# Altium schematic symbol library Molex FFC - FPC Connectors (Through-Hole).SchLib: 219 symbols (part 6 of 7)
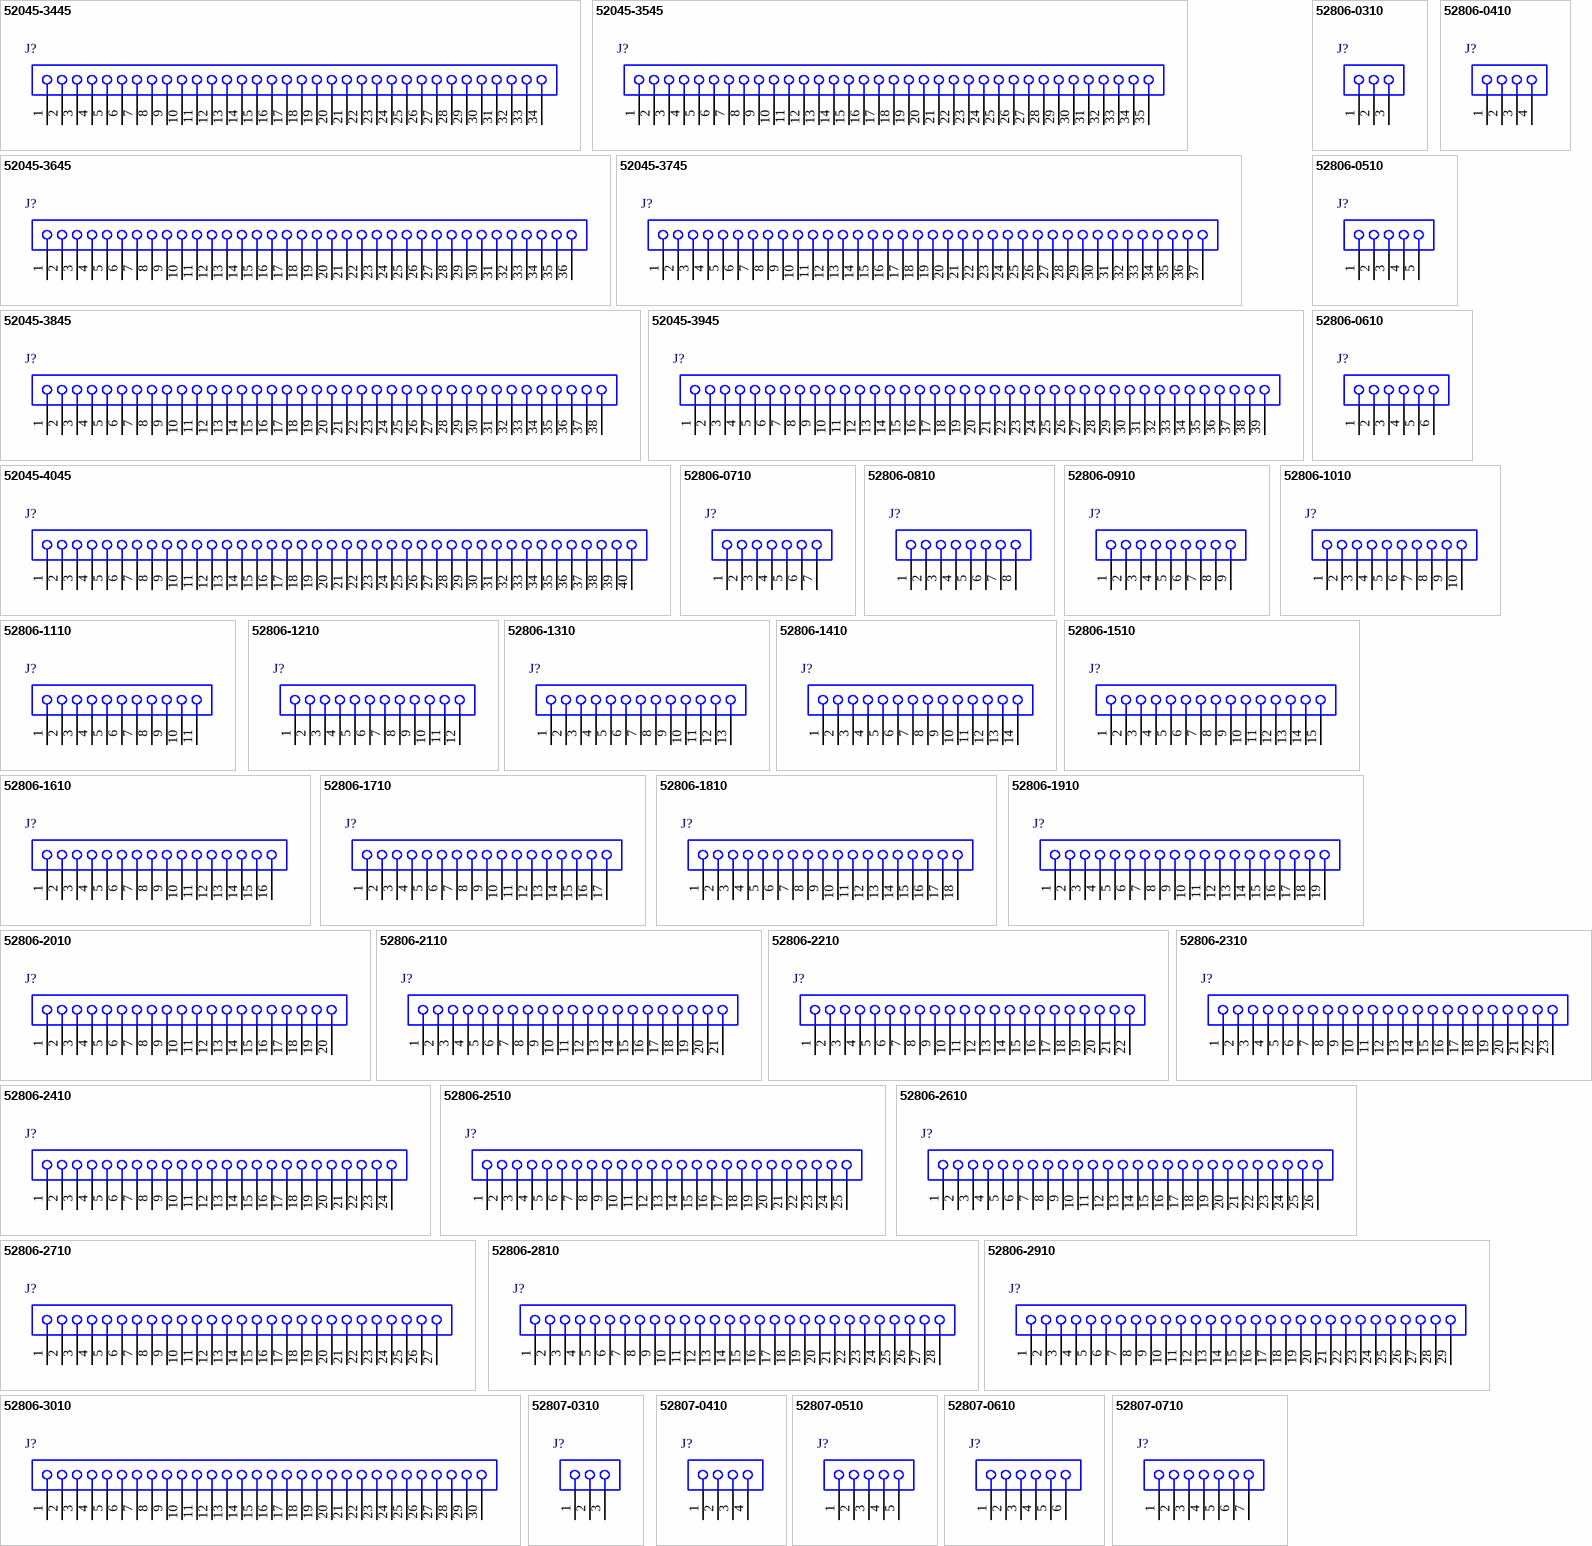
[diagram p10: symbols 52045-3445 to 52807-0710]

## 52806-2510
designator J?
1.0 mm Pitch FFC Connector, 5.4 mm Mated Height, Vertical, Non-ZIF, Through Hole, 25 Circuits, -20 to 80 degC, ELV and RoHS Compliant, Tray; Manufacturer: Molex; PartNumber: 52806-2510; Circuits (Loaded): 25; Current (Max per Contact): 0.5A; Durability (mating cycles max): 10; Mated Height: 5.40mm; Material - Metal: Phosphor Bronze; Material - Plating Mating: Tin; PCB Locator: No; PCB Retention: None; Pitch - Mating Interface: 1.00mm; Voltage (Max): 50V AC (RMS)/DC; PackageVersion: Rev. B, 08/2002; PackageReference: 52806-2510; PackageDescription: 25-Lead FFC Connector, Pitch 1.0 mm; Circuits (maximum): 25; Contact Position: N/A; Entry Angle: Vertical; Material - Plating Termination: Tin; Number of Rows: 1; Orientation: Vertical; Packing: Tray; Pitch - Termination Interface: 1.00mm; Polarized to PCB: No; RoHS: TRUE; Stackable: No; Mounting Technology: Through Hole; ComponentLink1Description: Manufacturer URL; ComponentLink1URL: http://www.molex.com/molex/index.jsp; ComponentLink2Description: Datasheet; ComponentLink2URL: http://www.molex.com/webdocs/datasheets/pdf/en-us/0528062510_FFC_FPC_CONNECTORS.pdf; ComponentLink3Description: Package Specification; ComponentLink3URL: http://www.molex.com/pdm_docs/sd/528062510_sd.pdf
footprint MOLX-52806-2510 (FFC Connector, 25-Leads, Vertical, Pitch 1.0 mm, Mated Height 5.4 mm, Through Hole)
pins: 1, 2, 3, 4, 5, 6, 7, 8, 9, 10, 11, 12, 13, 14, 15, 16, 17, 18, 19, 20, 21, 22, 23, 24, 25

## 52806-2610
designator J?
1.0 mm Pitch FFC Connector, 5.4 mm Mated Height, Vertical, Non-ZIF, Through Hole, 26 Circuits, -20 to 80 degC, ELV and RoHS Compliant, Tray; Manufacturer: Molex; PartNumber: 52806-2610; Circuits (Loaded): 26; Current (Max per Contact): 0.5A; Durability (mating cycles max): 10; Mated Height: 5.40mm; Material - Metal: Phosphor Bronze; Material - Plating Mating: Tin; PCB Locator: No; PCB Retention: None; Pitch - Mating Interface: 1.00mm; Voltage (Max): 50V AC (RMS)/DC; PackageVersion: Rev. B, 08/2002; PackageReference: 52806-2610; PackageDescription: 26-Lead FFC Connector, Pitch 1.0 mm; Circuits (maximum): 26; Contact Position: N/A; Entry Angle: Vertical; Material - Plating Termination: Tin; Number of Rows: 1; Orientation: Vertical; Packing: Tray; Pitch - Termination Interface: 1.00mm; Polarized to PCB: No; RoHS: TRUE; Stackable: No; Mounting Technology: Through Hole; ComponentLink1Description: Manufacturer URL; ComponentLink1URL: http://www.molex.com/molex/index.jsp; ComponentLink2Description: Datasheet; ComponentLink2URL: http://www.molex.com/webdocs/datasheets/pdf/en-us/0528062610_FFC_FPC_CONNECTORS.pdf; ComponentLink3Description: Package Specification; ComponentLink3URL: http://www.molex.com/pdm_docs/sd/528062610_sd.pdf
footprint MOLX-52806-2610 (FFC Connector, 26-Leads, Vertical, Pitch 1.0 mm, Mated Height 5.4 mm, Through Hole)
pins: 1, 2, 3, 4, 5, 6, 7, 8, 9, 10, 11, 12, 13, 14, 15, 16, 17, 18, 19, 20, 21, 22, 23, 24, 25, 26

## 52806-2710
designator J?
1.0 mm Pitch FFC Connector, 5.4 mm Mated Height, Vertical, Non-ZIF, Through Hole, 27 Circuits, -20 to 80 degC, ELV and RoHS Compliant, Tray; Manufacturer: Molex; PartNumber: 52806-2710; Circuits (Loaded): 27; Current (Max per Contact): 0.5A; Durability (mating cycles max): 10; Mated Height: 5.40mm; Material - Metal: Phosphor Bronze; Material - Plating Mating: Tin; PCB Locator: No; PCB Retention: None; Pitch - Mating Interface: 1.00mm; Voltage (Max): 50V AC (RMS)/DC; PackageVersion: Rev. B, 08/2002; PackageReference: 52806-2710; PackageDescription: 27-Lead FFC Connector, Pitch 1.0 mm; Circuits (maximum): 27; Contact Position: N/A; Entry Angle: Vertical; Material - Plating Termination: Tin; Number of Rows: 1; Orientation: Vertical; Packing: Tray; Pitch - Termination Interface: 1.00mm; Polarized to PCB: No; RoHS: TRUE; Stackable: No; Mounting Technology: Through Hole; ComponentLink1Description: Manufacturer URL; ComponentLink1URL: http://www.molex.com/molex/index.jsp; ComponentLink2Description: Datasheet; ComponentLink2URL: http://www.molex.com/webdocs/datasheets/pdf/en-us/0528062710_FFC_FPC_CONNECTORS.pdf; ComponentLink3Description: Package Specification; ComponentLink3URL: http://www.molex.com/pdm_docs/sd/528062710_sd.pdf
footprint MOLX-52806-2710 (FFC Connector, 27-Leads, Vertical, Pitch 1.0 mm, Mated Height 5.4 mm, Through Hole)
pins: 1, 2, 3, 4, 5, 6, 7, 8, 9, 10, 11, 12, 13, 14, 15, 16, 17, 18, 19, 20, 21, 22, 23, 24, 25, 26, 27

## 52806-2810
designator J?
1.0 mm Pitch FFC Connector, 5.4 mm Mated Height, Vertical, Non-ZIF, Through Hole, 28 Circuits, -20 to 80 degC, ELV and RoHS Compliant, Tray; Manufacturer: Molex; PartNumber: 52806-2810; Circuits (Loaded): 28; Current (Max per Contact): 0.5A; Durability (mating cycles max): 10; Mated Height: 5.40mm; Material - Metal: Phosphor Bronze; Material - Plating Mating: Tin; PCB Locator: No; PCB Retention: None; Pitch - Mating Interface: 1.00mm; Voltage (Max): 50V AC (RMS)/DC; PackageVersion: Rev. B, 08/2002; PackageReference: 52806-2810; PackageDescription: 28-Lead FFC Connector, Pitch 1.0 mm; Circuits (maximum): 28; Contact Position: N/A; Entry Angle: Vertical; Material - Plating Termination: Tin; Number of Rows: 1; Orientation: Vertical; Packing: Tray; Pitch - Termination Interface: 1.00mm; Polarized to PCB: No; RoHS: TRUE; Stackable: No; Mounting Technology: Through Hole; ComponentLink1Description: Manufacturer URL; ComponentLink1URL: http://www.molex.com/molex/index.jsp; ComponentLink2Description: Datasheet; ComponentLink2URL: http://www.molex.com/webdocs/datasheets/pdf/en-us/0528062810_FFC_FPC_CONNECTORS.pdf; ComponentLink3Description: Package Specification; ComponentLink3URL: http://www.molex.com/pdm_docs/sd/528062810_sd.pdf
footprint MOLX-52806-2810 (FFC Connector, 28-Leads, Vertical, Pitch 1.0 mm, Mated Height 5.4 mm, Through Hole)
pins: 1, 2, 3, 4, 5, 6, 7, 8, 9, 10, 11, 12, 13, 14, 15, 16, 17, 18, 19, 20, 21, 22, 23, 24, 25, 26, 27, 28

## 52806-2910
designator J?
1.0 mm Pitch FFC Connector, 5.4 mm Mated Height, Vertical, Non-ZIF, Through Hole, 29 Circuits, -20 to 80 degC, ELV and RoHS Compliant, Tray; Manufacturer: Molex; PartNumber: 52806-2910; Circuits (Loaded): 29; Current (Max per Contact): 0.5A; Durability (mating cycles max): 10; Mated Height: 5.40mm; Material - Metal: Phosphor Bronze; Material - Plating Mating: Tin; PCB Locator: No; PCB Retention: None; Pitch - Mating Interface: 1.00mm; Voltage (Max): 50V AC (RMS)/DC; PackageVersion: Rev. B, 08/2002; PackageReference: 52806-2910; PackageDescription: 29-Lead FFC Connector, Pitch 1.0 mm; Circuits (maximum): 29; Contact Position: N/A; Entry Angle: Vertical; Material - Plating Termination: Tin; Number of Rows: 1; Orientation: Vertical; Packing: Tray; Pitch - Termination Interface: 1.00mm; Polarized to PCB: No; RoHS: TRUE; Stackable: No; Mounting Technology: Through Hole; ComponentLink1Description: Manufacturer URL; ComponentLink1URL: http://www.molex.com/molex/index.jsp; ComponentLink2Description: Datasheet; ComponentLink2URL: http://www.molex.com/webdocs/datasheets/pdf/en-us/0528062910_FFC_FPC_CONNECTORS.pdf; ComponentLink3Description: Package Specification; ComponentLink3URL: http://www.molex.com/pdm_docs/sd/528062910_sd.pdf
footprint MOLX-52806-2910 (FFC Connector, 29-Leads, Vertical, Pitch 1.0 mm, Mated Height 5.4 mm, Through Hole)
pins: 1, 2, 3, 4, 5, 6, 7, 8, 9, 10, 11, 12, 13, 14, 15, 16, 17, 18, 19, 20, 21, 22, 23, 24, 25, 26, 27, 28, 29

## 52806-3010
designator J?
1.0 mm Pitch FFC Connector, 5.4 mm Mated Height, Vertical, Non-ZIF, Through Hole, 30 Circuits, -20 to 80 degC, ELV and RoHS Compliant, Tray; Manufacturer: Molex; PartNumber: 52806-3010; Circuits (Loaded): 30; Current (Max per Contact): 0.5A; Durability (mating cycles max): 10; Mated Height: 5.40mm; Material - Metal: Phosphor Bronze; Material - Plating Mating: Tin; PCB Locator: No; PCB Retention: None; Pitch - Mating Interface: 1.00mm; Voltage (Max): 50V AC (RMS)/DC; PackageVersion: Rev. B, 08/2002; PackageReference: 52806-3010; PackageDescription: 30-Lead FFC Connector, Pitch 1.0 mm; Circuits (maximum): 30; Contact Position: N/A; Entry Angle: Vertical; Material - Plating Termination: Tin; Number of Rows: 1; Orientation: Vertical; Packing: Tray; Pitch - Termination Interface: 1.00mm; Polarized to PCB: No; RoHS: TRUE; Stackable: No; Mounting Technology: Through Hole; ComponentLink1Description: Manufacturer URL; ComponentLink1URL: http://www.molex.com/molex/index.jsp; ComponentLink2Description: Datasheet; ComponentLink2URL: http://www.molex.com/webdocs/datasheets/pdf/en-us/0528063010_FFC_FPC_CONNECTORS.pdf; ComponentLink3Description: Package Specification; ComponentLink3URL: http://www.molex.com/pdm_docs/sd/528063010_sd.pdf
footprint MOLX-52806-3010 (FFC Connector, 30-Leads, Vertical, Pitch 1.0 mm, Mated Height 5.4 mm, Through Hole)
pins: 1, 2, 3, 4, 5, 6, 7, 8, 9, 10, 11, 12, 13, 14, 15, 16, 17, 18, 19, 20, 21, 22, 23, 24, 25, 26, 27, 28, 29, 30

## 52807-0310
designator J?
1.0 mm Pitch FFC Connector, 3.6 mm Mated Height, Right Angle, Non-ZIF, Through Hole, Top Contact, 3 Circuits, -20 to 80 degC, ELV and RoHS Compliant, Tray; Manufacturer: Molex; PartNumber: 52807-0310; Circuits (Loaded): 3; Current (Max per Contact): 0.2A, 0.4A, 0.5A; Entry Angle: 90degrees Angle; Mated Height: 3.60mm; Material - Metal: Phosphor Bronze; Material - Plating Mating: Tin; PCB Retention: None; Pitch - Mating Interface: 1.00mm; Polarized to PCB: Yes; Stackable: No; Voltage (Max): 50V; PackageVersion: Rev. B, 08/2002; PackageReference: 52807-0310; PackageDescription: 3-Lead FFC Connector, Pitch 1.0 mm; Contact Position: Top; Material - Plating Termination: Tin; Number of Rows: 1; Orientation: Right Angle; Packing: Tray; Pitch - Termination Interface: 1.00mm; RoHS: TRUE; Mounting Technology: Through Hole; ComponentLink1Description: Manufacturer URL; ComponentLink1URL: http://www.molex.com/molex/index.jsp; ComponentLink2Description: Datasheet; ComponentLink2URL: http://www.molex.com/webdocs/datasheets/pdf/en-us/0528070310_FFC_FPC_CONNECTORS.pdf; ComponentLink3Description: Package Specification; ComponentLink3URL: http://www.molex.com/pdm_docs/sd/528070310_sd.pdf
footprint MOLX-52807-0310 (FFC Connector, 3-Leads, Right Angle, Pitch 1.0 mm, Mated Height 3.6 mm, Through Hole)
pins: 1, 2, 3

## 52807-0410
designator J?
1.0 mm Pitch FFC Connector, 3.6 mm Mated Height, Right Angle, Non-ZIF, Through Hole, Top Contact, 4 Circuits, -20 to 80 degC, ELV and RoHS Compliant, Tray; Manufacturer: Molex; PartNumber: 52807-0410; Circuits (Loaded): 4; Current (Max per Contact): 0.2A, 0.4A, 0.5A; Entry Angle: 90degrees Angle; Mated Height: 3.60mm; Material - Metal: Phosphor Bronze; Material - Plating Mating: Tin; PCB Retention: None; Pitch - Mating Interface: 1.00mm; Polarized to PCB: Yes; Stackable: No; Voltage (Max): 50V; PackageVersion: Rev. B, 08/2002; PackageReference: 52807-0410; PackageDescription: 4-Lead FFC Connector, Pitch 1.0 mm; Contact Position: Top; Material - Plating Termination: Tin; Number of Rows: 1; Orientation: Right Angle; Packing: Tray; Pitch - Termination Interface: 1.00mm; RoHS: TRUE; Mounting Technology: Through Hole; ComponentLink1Description: Manufacturer URL; ComponentLink1URL: http://www.molex.com/molex/index.jsp; ComponentLink2Description: Datasheet; ComponentLink2URL: http://www.molex.com/webdocs/datasheets/pdf/en-us/0528070410_FFC_FPC_CONNECTORS.pdf; ComponentLink3Description: Package Specification; ComponentLink3URL: http://www.molex.com/pdm_docs/sd/528070410_sd.pdf
footprint MOLX-52807-0410 (FFC Connector, 4-Leads, Right Angle, Pitch 1.0 mm, Mated Height 3.6 mm, Through Hole)
pins: 1, 2, 3, 4

## 52807-0510
designator J?
1.0 mm Pitch FFC Connector, 3.6 mm Mated Height, Right Angle, Non-ZIF, Through Hole, Top Contact, 5 Circuits, -20 to 80 degC, ELV and RoHS Compliant, Tray; Manufacturer: Molex; PartNumber: 52807-0510; Circuits (Loaded): 5; Current (Max per Contact): 0.2A, 0.4A, 0.5A; Entry Angle: 90degrees Angle; Mated Height: 3.60mm; Material - Metal: Phosphor Bronze; Material - Plating Mating: Tin; PCB Retention: None; Pitch - Mating Interface: 1.00mm; Polarized to PCB: Yes; Stackable: No; Voltage (Max): 50V; PackageVersion: Rev. B, 08/2002; PackageReference: 52807-0510; PackageDescription: 5-Lead FFC Connector, Pitch 1.0 mm; Contact Position: Top; Material - Plating Termination: Tin; Number of Rows: 1; Orientation: Right Angle; Packing: Tray; Pitch - Termination Interface: 1.00mm; RoHS: TRUE; Mounting Technology: Through Hole; ComponentLink1Description: Manufacturer URL; ComponentLink1URL: http://www.molex.com/molex/index.jsp; ComponentLink2Description: Datasheet; ComponentLink2URL: http://www.molex.com/webdocs/datasheets/pdf/en-us/0528070510_FFC_FPC_CONNECTORS.pdf; ComponentLink3Description: Package Specification; ComponentLink3URL: http://www.molex.com/pdm_docs/sd/528070510_sd.pdf
footprint MOLX-52807-0510 (FFC Connector, 5-Leads, Right Angle, Pitch 1.0 mm, Mated Height 3.6 mm, Through Hole)
pins: 1, 2, 3, 4, 5

## 52807-0610
designator J?
1.0 mm Pitch FFC Connector, 3.6 mm Mated Height, Right Angle, Non-ZIF, Through Hole, Top Contact, 6 Circuits, -20 to 80 degC, ELV and RoHS Compliant, Tray; Manufacturer: Molex; PartNumber: 52807-0610; Circuits (Loaded): 6; Current (Max per Contact): 0.2A, 0.4A, 0.5A; Entry Angle: 90degrees Angle; Mated Height: 3.60mm; Material - Metal: Phosphor Bronze; Material - Plating Mating: Tin; PCB Retention: None; Pitch - Mating Interface: 1.00mm; Polarized to PCB: Yes; Stackable: No; Voltage (Max): 50V; PackageVersion: Rev. B, 08/2002; PackageReference: 52807-0610; PackageDescription: 6-Lead FFC Connector, Pitch 1.0 mm; Contact Position: Top; Material - Plating Termination: Tin; Number of Rows: 1; Orientation: Right Angle; Packing: Tray; Pitch - Termination Interface: 1.00mm; RoHS: TRUE; Mounting Technology: Through Hole; ComponentLink1Description: Manufacturer URL; ComponentLink1URL: http://www.molex.com/molex/index.jsp; ComponentLink2Description: Datasheet; ComponentLink2URL: http://www.molex.com/webdocs/datasheets/pdf/en-us/0528070610_FFC_FPC_CONNECTORS.pdf; ComponentLink3Description: Package Specification; ComponentLink3URL: http://www.molex.com/pdm_docs/sd/528070610_sd.pdf
footprint MOLX-52807-0610 (FFC Connector, 6-Leads, Right Angle, Pitch 1.0 mm, Mated Height 3.6 mm, Through Hole)
pins: 1, 2, 3, 4, 5, 6

## 52807-0710
designator J?
1.0 mm Pitch FFC Connector, 3.6 mm Mated Height, Right Angle, Non-ZIF, Through Hole, Top Contact, 7 Circuits, -20 to 80 degC, ELV and RoHS Compliant, Tray; Manufacturer: Molex; PartNumber: 52807-0710; Circuits (Loaded): 7; Current (Max per Contact): 0.2A, 0.4A, 0.5A; Entry Angle: 90degrees Angle; Mated Height: 3.60mm; Material - Metal: Phosphor Bronze; Material - Plating Mating: Tin; PCB Retention: None; Pitch - Mating Interface: 1.00mm; Polarized to PCB: Yes; Stackable: No; Voltage (Max): 50V; PackageVersion: Rev. B, 08/2002; PackageReference: 52807-0710; PackageDescription: 7-Lead FFC Connector, Pitch 1.0 mm; Contact Position: Top; Material - Plating Termination: Tin; Number of Rows: 1; Orientation: Right Angle; Packing: Tray; Pitch - Termination Interface: 1.00mm; RoHS: TRUE; Mounting Technology: Through Hole; ComponentLink1Description: Manufacturer URL; ComponentLink1URL: http://www.molex.com/molex/index.jsp; ComponentLink2Description: Datasheet; ComponentLink2URL: http://www.molex.com/webdocs/datasheets/pdf/en-us/0528070710_FFC_FPC_CONNECTORS.pdf; ComponentLink3Description: Package Specification; ComponentLink3URL: http://www.molex.com/pdm_docs/sd/528070710_sd.pdf
footprint MOLX-52807-0710 (FFC Connector, 7-Leads, Right Angle, Pitch 1.0 mm, Mated Height 3.6 mm, Through Hole)
pins: 1, 2, 3, 4, 5, 6, 7

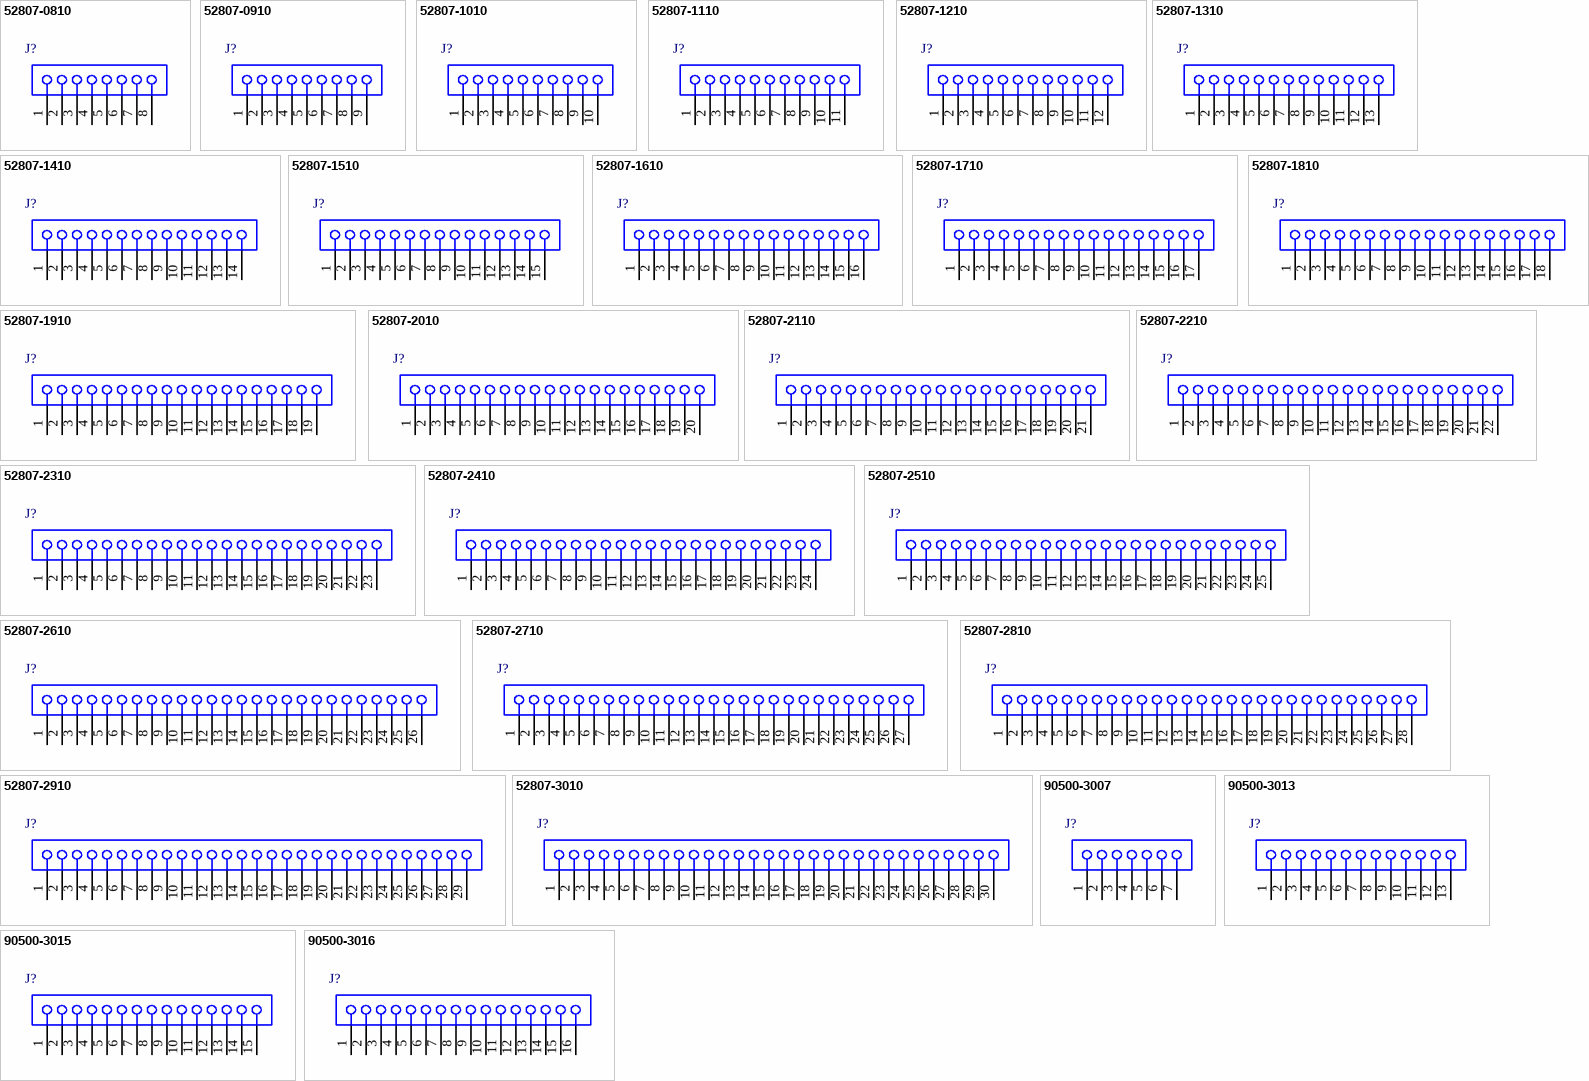
[diagram p5: symbols 52807-0810 to 90500-3016]

## 52807-0810
designator J?
1.0 mm Pitch FFC Connector, 3.6 mm Mated Height, Right Angle, Non-ZIF, Through Hole, Top Contact, 8 Circuits, -20 to 80 degC, ELV and RoHS Compliant, Tray; Manufacturer: Molex; PartNumber: 52807-0810; Circuits (Loaded): 8; Current (Max per Contact): 0.2A, 0.4A, 0.5A; Entry Angle: 90degrees Angle; Mated Height: 3.60mm; Material - Metal: Phosphor Bronze; Material - Plating Mating: Tin; PCB Retention: None; Pitch - Mating Interface: 1.00mm; Polarized to PCB: Yes; Stackable: No; Voltage (Max): 50V; PackageVersion: Rev. B, 08/2002; PackageReference: 52807-0810; PackageDescription: 8-Lead FFC Connector, Pitch 1.0 mm; Contact Position: Top; Material - Plating Termination: Tin; Number of Rows: 1; Orientation: Right Angle; Packing: Tray; Pitch - Termination Interface: 1.00mm; RoHS: TRUE; Mounting Technology: Through Hole; ComponentLink1Description: Manufacturer URL; ComponentLink1URL: http://www.molex.com/molex/index.jsp; ComponentLink2Description: Datasheet; ComponentLink2URL: http://www.molex.com/webdocs/datasheets/pdf/en-us/0528070810_FFC_FPC_CONNECTORS.pdf; ComponentLink3Description: Package Specification; ComponentLink3URL: http://www.molex.com/pdm_docs/sd/528070810_sd.pdf
footprint MOLX-52807-0810 (FFC Connector, 8-Leads, Right Angle, Pitch 1.0 mm, Mated Height 3.6 mm, Through Hole)
pins: 1, 2, 3, 4, 5, 6, 7, 8

## 52807-0910
designator J?
1.0 mm Pitch FFC Connector, 3.6 mm Mated Height, Right Angle, Non-ZIF, Through Hole, Top Contact, 9 Circuits, -20 to 80 degC, ELV and RoHS Compliant, Tray; Manufacturer: Molex; PartNumber: 52807-0910; Circuits (Loaded): 9; Current (Max per Contact): 0.2A, 0.4A, 0.5A; Entry Angle: 90degrees Angle; Mated Height: 3.60mm; Material - Metal: Phosphor Bronze; Material - Plating Mating: Tin; PCB Retention: None; Pitch - Mating Interface: 1.00mm; Polarized to PCB: Yes; Stackable: No; Voltage (Max): 50V; PackageVersion: Rev. B, 08/2002; PackageReference: 52807-0910; PackageDescription: 9-Lead FFC Connector, Pitch 1.0 mm; Contact Position: Top; Material - Plating Termination: Tin; Number of Rows: 1; Orientation: Right Angle; Packing: Tray; Pitch - Termination Interface: 1.00mm; RoHS: TRUE; Mounting Technology: Through Hole; ComponentLink1Description: Manufacturer URL; ComponentLink1URL: http://www.molex.com/molex/index.jsp; ComponentLink2Description: Datasheet; ComponentLink2URL: http://www.molex.com/webdocs/datasheets/pdf/en-us/0528070910_FFC_FPC_CONNECTORS.pdf; ComponentLink3Description: Package Specification; ComponentLink3URL: http://www.molex.com/pdm_docs/sd/528070910_sd.pdf
footprint MOLX-52807-0910 (FFC Connector, 9-Leads, Right Angle, Pitch 1.0 mm, Mated Height 3.6 mm, Through Hole)
pins: 1, 2, 3, 4, 5, 6, 7, 8, 9

## 52807-1010
designator J?
1.0 mm Pitch FFC Connector, 3.6 mm Mated Height, Right Angle, Non-ZIF, Through Hole, Top Contact, 10 Circuits, -20 to 80 degC, ELV and RoHS Compliant, Tray; Manufacturer: Molex; PartNumber: 52807-1010; Circuits (Loaded): 10; Current (Max per Contact): 0.2A, 0.4A, 0.5A; Entry Angle: 90degrees Angle; Mated Height: 3.60mm; Material - Metal: Phosphor Bronze; Material - Plating Mating: Tin; PCB Retention: None; Pitch - Mating Interface: 1.00mm; Polarized to PCB: Yes; Stackable: No; Voltage (Max): 50V; PackageVersion: Rev. B, 08/2002; PackageReference: 52807-1010; PackageDescription: 10-Lead FFC Connector, Pitch 1.0 mm; Contact Position: Top; Material - Plating Termination: Tin; Number of Rows: 1; Orientation: Right Angle; Packing: Tray; Pitch - Termination Interface: 1.00mm; RoHS: TRUE; Mounting Technology: Through Hole; ComponentLink1Description: Manufacturer URL; ComponentLink1URL: http://www.molex.com/molex/index.jsp; ComponentLink2Description: Datasheet; ComponentLink2URL: http://www.molex.com/webdocs/datasheets/pdf/en-us/0528071010_FFC_FPC_CONNECTORS.pdf; ComponentLink3Description: Package Specification; ComponentLink3URL: http://www.molex.com/pdm_docs/sd/528071010_sd.pdf
footprint MOLX-52807-1010 (FFC Connector, 10-Leads, Right Angle, Pitch 1.0 mm, Mated Height 3.6 mm, Through Hole)
pins: 1, 2, 3, 4, 5, 6, 7, 8, 9, 10

## 52807-1110
designator J?
1.0 mm Pitch FFC Connector, 3.6 mm Mated Height, Right Angle, Non-ZIF, Through Hole, Top Contact, 11 Circuits, -20 to 80 degC, ELV and RoHS Compliant, Tray; Manufacturer: Molex; PartNumber: 52807-1110; Circuits (Loaded): 11; Current (Max per Contact): 0.2A, 0.4A, 0.5A; Entry Angle: 90degrees Angle; Mated Height: 3.60mm; Material - Metal: Phosphor Bronze; Material - Plating Mating: Tin; PCB Retention: None; Pitch - Mating Interface: 1.00mm; Polarized to PCB: Yes; Stackable: No; Voltage (Max): 50V; PackageVersion: Rev. B, 08/2002; PackageReference: 52807-1110; PackageDescription: 11-Lead FFC Connector, Pitch 1.0 mm; Contact Position: Top; Material - Plating Termination: Tin; Number of Rows: 1; Orientation: Right Angle; Packing: Tray; Pitch - Termination Interface: 1.00mm; RoHS: TRUE; Mounting Technology: Through Hole; ComponentLink1Description: Manufacturer URL; ComponentLink1URL: http://www.molex.com/molex/index.jsp; ComponentLink2Description: Datasheet; ComponentLink2URL: http://www.molex.com/webdocs/datasheets/pdf/en-us/0528071110_FFC_FPC_CONNECTORS.pdf; ComponentLink3Description: Package Specification; ComponentLink3URL: http://www.molex.com/pdm_docs/sd/528071110_sd.pdf
footprint MOLX-52807-1110 (FFC Connector, 11-Leads, Right Angle, Pitch 1.0 mm, Mated Height 3.6 mm, Through Hole)
pins: 1, 2, 3, 4, 5, 6, 7, 8, 9, 10, 11

## 52807-1210
designator J?
1.0 mm Pitch FFC Connector, 3.6 mm Mated Height, Right Angle, Non-ZIF, Through Hole, Top Contact, 12 Circuits, -20 to 80 degC, ELV and RoHS Compliant, Tray; Manufacturer: Molex; PartNumber: 52807-1210; Circuits (Loaded): 12; Current (Max per Contact): 0.2A, 0.4A, 0.5A; Entry Angle: 90degrees Angle; Mated Height: 3.60mm; Material - Metal: Phosphor Bronze; Material - Plating Mating: Tin; PCB Retention: None; Pitch - Mating Interface: 1.00mm; Polarized to PCB: Yes; Stackable: No; Voltage (Max): 50V; PackageVersion: Rev. B, 08/2002; PackageReference: 52807-1210; PackageDescription: 12-Lead FFC Connector, Pitch 1.0 mm; Contact Position: Top; Material - Plating Termination: Tin; Number of Rows: 1; Orientation: Right Angle; Packing: Tray; Pitch - Termination Interface: 1.00mm; RoHS: TRUE; Mounting Technology: Through Hole; ComponentLink1Description: Manufacturer URL; ComponentLink1URL: http://www.molex.com/molex/index.jsp; ComponentLink2Description: Datasheet; ComponentLink2URL: http://www.molex.com/webdocs/datasheets/pdf/en-us/0528071210_FFC_FPC_CONNECTORS.pdf; ComponentLink3Description: Package Specification; ComponentLink3URL: http://www.molex.com/pdm_docs/sd/528071210_sd.pdf
footprint MOLX-52807-1210 (FFC Connector, 12-Leads, Right Angle, Pitch 1.0 mm, Mated Height 3.6 mm, Through Hole)
pins: 1, 2, 3, 4, 5, 6, 7, 8, 9, 10, 11, 12

## 52807-1310
designator J?
1.0 mm Pitch FFC Connector, 3.6 mm Mated Height, Right Angle, Non-ZIF, Through Hole, Top Contact, 13 Circuits, -20 to 80 degC, ELV and RoHS Compliant, Tray; Manufacturer: Molex; PartNumber: 52807-1310; Circuits (Loaded): 13; Current (Max per Contact): 0.2A, 0.4A, 0.5A; Entry Angle: 90degrees Angle; Mated Height: 3.60mm; Material - Metal: Phosphor Bronze; Material - Plating Mating: Tin; PCB Retention: None; Pitch - Mating Interface: 1.00mm; Polarized to PCB: Yes; Stackable: No; Voltage (Max): 50V; PackageVersion: Rev. B, 08/2002; PackageReference: 52807-1310; PackageDescription: 13-Lead FFC Connector, Pitch 1.0 mm; Contact Position: Top; Material - Plating Termination: Tin; Number of Rows: 1; Orientation: Right Angle; Packing: Tray; Pitch - Termination Interface: 1.00mm; RoHS: TRUE; Mounting Technology: Through Hole; ComponentLink1Description: Manufacturer URL; ComponentLink1URL: http://www.molex.com/molex/index.jsp; ComponentLink2Description: Datasheet; ComponentLink2URL: http://www.molex.com/webdocs/datasheets/pdf/en-us/0528071310_FFC_FPC_CONNECTORS.pdf; ComponentLink3Description: Package Specification; ComponentLink3URL: http://www.molex.com/pdm_docs/sd/528071310_sd.pdf
footprint MOLX-52807-1310 (FFC Connector, 13-Leads, Right Angle, Pitch 1.0 mm, Mated Height 3.6 mm, Through Hole)
pins: 1, 2, 3, 4, 5, 6, 7, 8, 9, 10, 11, 12, 13

## 52807-1410
designator J?
1.0 mm Pitch FFC Connector, 3.6 mm Mated Height, Right Angle, Non-ZIF, Through Hole, Top Contact, 14 Circuits, -20 to 80 degC, ELV and RoHS Compliant, Tray; Manufacturer: Molex; PartNumber: 52807-1410; Circuits (Loaded): 14; Current (Max per Contact): 0.2A, 0.4A, 0.5A; Entry Angle: 90degrees Angle; Mated Height: 3.60mm; Material - Metal: Phosphor Bronze; Material - Plating Mating: Tin; PCB Retention: None; Pitch - Mating Interface: 1.00mm; Polarized to PCB: Yes; Stackable: No; Voltage (Max): 50V; PackageVersion: Rev. B, 08/2002; PackageReference: 52807-1410; PackageDescription: 14-Lead FFC Connector, Pitch 1.0 mm; Contact Position: Top; Material - Plating Termination: Tin; Number of Rows: 1; Orientation: Right Angle; Packing: Tray; Pitch - Termination Interface: 1.00mm; RoHS: TRUE; Mounting Technology: Through Hole; ComponentLink1Description: Manufacturer URL; ComponentLink1URL: http://www.molex.com/molex/index.jsp; ComponentLink2Description: Datasheet; ComponentLink2URL: http://www.molex.com/webdocs/datasheets/pdf/en-us/0528071410_FFC_FPC_CONNECTORS.pdf; ComponentLink3Description: Package Specification; ComponentLink3URL: http://www.molex.com/pdm_docs/sd/528071410_sd.pdf
footprint MOLX-52807-1410 (FFC Connector, 14-Leads, Right Angle, Pitch 1.0 mm, Mated Height 3.6 mm, Through Hole)
pins: 1, 2, 3, 4, 5, 6, 7, 8, 9, 10, 11, 12, 13, 14

## 52807-1510
designator J?
1.0 mm Pitch FFC Connector, 3.6 mm Mated Height, Right Angle, Non-ZIF, Through Hole, Top Contact, 15 Circuits, -20 to 80 degC, ELV and RoHS Compliant, Tray; Manufacturer: Molex; PartNumber: 52807-1510; Circuits (Loaded): 15; Current (Max per Contact): 0.2A, 0.4A, 0.5A; Entry Angle: 90degrees Angle; Mated Height: 3.60mm; Material - Metal: Phosphor Bronze; Material - Plating Mating: Tin; PCB Retention: None; Pitch - Mating Interface: 1.00mm; Polarized to PCB: Yes; Stackable: No; Voltage (Max): 50V; PackageVersion: Rev. B, 08/2002; PackageReference: 52807-1510; PackageDescription: 15-Lead FFC Connector, Pitch 1.0 mm; Contact Position: Top; Material - Plating Termination: Tin; Number of Rows: 1; Orientation: Right Angle; Packing: Tray; Pitch - Termination Interface: 1.00mm; RoHS: TRUE; Mounting Technology: Through Hole; ComponentLink1Description: Manufacturer URL; ComponentLink1URL: http://www.molex.com/molex/index.jsp; ComponentLink2Description: Datasheet; ComponentLink2URL: http://www.molex.com/webdocs/datasheets/pdf/en-us/0528071510_FFC_FPC_CONNECTORS.pdf; ComponentLink3Description: Package Specification; ComponentLink3URL: http://www.molex.com/pdm_docs/sd/528071510_sd.pdf
footprint MOLX-52807-1510 (FFC Connector, 15-Leads, Right Angle, Pitch 1.0 mm, Mated Height 3.6 mm, Through Hole)
pins: 1, 2, 3, 4, 5, 6, 7, 8, 9, 10, 11, 12, 13, 14, 15

## 52807-1610
designator J?
1.0 mm Pitch FFC Connector, 3.6 mm Mated Height, Right Angle, Non-ZIF, Through Hole, Top Contact, 16 Circuits, -20 to 80 degC, ELV and RoHS Compliant, Tray; Manufacturer: Molex; PartNumber: 52807-1610; Circuits (Loaded): 16; Current (Max per Contact): 0.2A, 0.4A, 0.5A; Entry Angle: 90degrees Angle; Mated Height: 3.60mm; Material - Metal: Phosphor Bronze; Material - Plating Mating: Tin; PCB Retention: None; Pitch - Mating Interface: 1.00mm; Polarized to PCB: Yes; Stackable: No; Voltage (Max): 50V; PackageVersion: Rev. B, 08/2002; PackageReference: 52807-1610; PackageDescription: 16-Lead FFC Connector, Pitch 1.0 mm; Contact Position: Top; Material - Plating Termination: Tin; Number of Rows: 1; Orientation: Right Angle; Packing: Tray; Pitch - Termination Interface: 1.00mm; RoHS: TRUE; Mounting Technology: Through Hole; ComponentLink1Description: Manufacturer URL; ComponentLink1URL: http://www.molex.com/molex/index.jsp; ComponentLink2Description: Datasheet; ComponentLink2URL: http://www.molex.com/webdocs/datasheets/pdf/en-us/0528071610_FFC_FPC_CONNECTORS.pdf; ComponentLink3Description: Package Specification; ComponentLink3URL: http://www.molex.com/pdm_docs/sd/528071610_sd.pdf
footprint MOLX-52807-1610 (FFC Connector, 16-Leads, Right Angle, Pitch 1.0 mm, Mated Height 3.6 mm, Through Hole)
pins: 1, 2, 3, 4, 5, 6, 7, 8, 9, 10, 11, 12, 13, 14, 15, 16

## 52807-1710
designator J?
1.0 mm Pitch FFC Connector, 3.6 mm Mated Height, Right Angle, Non-ZIF, Through Hole, Top Contact, 17 Circuits, -20 to 80 degC, ELV and RoHS Compliant, Tray; Manufacturer: Molex; PartNumber: 52807-1710; Circuits (Loaded): 17; Current (Max per Contact): 0.2A, 0.4A, 0.5A; Entry Angle: 90degrees Angle; Mated Height: 3.60mm; Material - Metal: Phosphor Bronze; Material - Plating Mating: Tin; PCB Retention: None; Pitch - Mating Interface: 1.00mm; Polarized to PCB: Yes; Stackable: No; Voltage (Max): 50V; PackageVersion: Rev. B, 08/2002; PackageReference: 52807-1710; PackageDescription: 17-Lead FFC Connector, Pitch 1.0 mm; Contact Position: Top; Material - Plating Termination: Tin; Number of Rows: 1; Orientation: Right Angle; Packing: Tray; Pitch - Termination Interface: 1.00mm; RoHS: TRUE; Mounting Technology: Through Hole; ComponentLink1Description: Manufacturer URL; ComponentLink1URL: http://www.molex.com/molex/index.jsp; ComponentLink2Description: Datasheet; ComponentLink2URL: http://www.molex.com/webdocs/datasheets/pdf/en-us/0528071710_FFC_FPC_CONNECTORS.pdf; ComponentLink3Description: Package Specification; ComponentLink3URL: http://www.molex.com/pdm_docs/sd/528071710_sd.pdf
footprint MOLX-52807-1710 (FFC Connector, 17-Leads, Right Angle, Pitch 1.0 mm, Mated Height 3.6 mm, Through Hole)
pins: 1, 2, 3, 4, 5, 6, 7, 8, 9, 10, 11, 12, 13, 14, 15, 16, 17

## 52807-1810
designator J?
1.0 mm Pitch FFC Connector, 3.6 mm Mated Height, Right Angle, Non-ZIF, Through Hole, Top Contact, 18 Circuits, -20 to 80 degC, ELV and RoHS Compliant, Tray; Manufacturer: Molex; PartNumber: 52807-1810; Circuits (Loaded): 18; Current (Max per Contact): 0.2A, 0.4A, 0.5A; Entry Angle: 90degrees Angle; Mated Height: 3.60mm; Material - Metal: Phosphor Bronze; Material - Plating Mating: Tin; PCB Retention: None; Pitch - Mating Interface: 1.00mm; Polarized to PCB: Yes; Stackable: No; Voltage (Max): 50V; PackageVersion: Rev. B, 08/2002; PackageReference: 52807-1810; PackageDescription: 18-Lead FFC Connector, Pitch 1.0 mm; Contact Position: Top; Material - Plating Termination: Tin; Number of Rows: 1; Orientation: Right Angle; Packing: Tray; Pitch - Termination Interface: 1.00mm; RoHS: TRUE; Mounting Technology: Through Hole; ComponentLink1Description: Manufacturer URL; ComponentLink1URL: http://www.molex.com/molex/index.jsp; ComponentLink2Description: Datasheet; ComponentLink2URL: http://www.molex.com/webdocs/datasheets/pdf/en-us/0528071810_FFC_FPC_CONNECTORS.pdf; ComponentLink3Description: Package Specification; ComponentLink3URL: http://www.molex.com/pdm_docs/sd/528071810_sd.pdf
footprint MOLX-52807-1810 (FFC Connector, 18-Leads, Right Angle, Pitch 1.0 mm, Mated Height 3.6 mm, Through Hole)
pins: 1, 2, 3, 4, 5, 6, 7, 8, 9, 10, 11, 12, 13, 14, 15, 16, 17, 18

## 52807-1910
designator J?
1.0 mm Pitch FFC Connector, 3.6 mm Mated Height, Right Angle, Non-ZIF, Through Hole, Top Contact, 19 Circuits, -20 to 80 degC, ELV and RoHS Compliant, Tray; Manufacturer: Molex; PartNumber: 52807-1910; Circuits (Loaded): 19; Current (Max per Contact): 0.2A, 0.4A, 0.5A; Entry Angle: 90degrees Angle; Mated Height: 3.60mm; Material - Metal: Phosphor Bronze; Material - Plating Mating: Tin; PCB Retention: None; Pitch - Mating Interface: 1.00mm; Polarized to PCB: Yes; Stackable: No; Voltage (Max): 50V; PackageVersion: Rev. B, 08/2002; PackageReference: 52807-1910; PackageDescription: 19-Lead FFC Connector, Pitch 1.0 mm; Contact Position: Top; Material - Plating Termination: Tin; Number of Rows: 1; Orientation: Right Angle; Packing: Tray; Pitch - Termination Interface: 1.00mm; RoHS: TRUE; Mounting Technology: Through Hole; ComponentLink1Description: Manufacturer URL; ComponentLink1URL: http://www.molex.com/molex/index.jsp; ComponentLink2Description: Datasheet; ComponentLink2URL: http://www.molex.com/webdocs/datasheets/pdf/en-us/0528071910_FFC_FPC_CONNECTORS.pdf; ComponentLink3Description: Package Specification; ComponentLink3URL: http://www.molex.com/pdm_docs/sd/528071910_sd.pdf
footprint MOLX-52807-1910 (FFC Connector, 19-Leads, Right Angle, Pitch 1.0 mm, Mated Height 3.6 mm, Through Hole)
pins: 1, 2, 3, 4, 5, 6, 7, 8, 9, 10, 11, 12, 13, 14, 15, 16, 17, 18, 19

## 52807-2010
designator J?
1.0 mm Pitch FFC Connector, 3.6 mm Mated Height, Right Angle, Non-ZIF, Through Hole, Top Contact, 20 Circuits, -20 to 80 degC, ELV and RoHS Compliant, Tray; Manufacturer: Molex; PartNumber: 52807-2010; Circuits (Loaded): 20; Current (Max per Contact): 0.2A, 0.4A, 0.5A; Entry Angle: 90degrees Angle; Mated Height: 3.60mm; Material - Metal: Phosphor Bronze; Material - Plating Mating: Tin; PCB Retention: None; Pitch - Mating Interface: 1.00mm; Polarized to PCB: Yes; Stackable: No; Voltage (Max): 50V; PackageVersion: Rev. B, 08/2002; PackageReference: 52807-2010; PackageDescription: 20-Lead FFC Connector, Pitch 1.0 mm; Contact Position: Top; Material - Plating Termination: Tin; Number of Rows: 1; Orientation: Right Angle; Packing: Tray; Pitch - Termination Interface: 1.00mm; RoHS: TRUE; Mounting Technology: Through Hole; ComponentLink1Description: Manufacturer URL; ComponentLink1URL: http://www.molex.com/molex/index.jsp; ComponentLink2Description: Datasheet; ComponentLink2URL: http://www.molex.com/webdocs/datasheets/pdf/en-us/0528072010_FFC_FPC_CONNECTORS.pdf; ComponentLink3Description: Package Specification; ComponentLink3URL: http://www.molex.com/pdm_docs/sd/528072010_sd.pdf
footprint MOLX-52807-2010 (FFC Connector, 20-Leads, Right Angle, Pitch 1.0 mm, Mated Height 3.6 mm, Through Hole)
pins: 1, 2, 3, 4, 5, 6, 7, 8, 9, 10, 11, 12, 13, 14, 15, 16, 17, 18, 19, 20

## 52807-2110
designator J?
1.0 mm Pitch FFC Connector, 3.6 mm Mated Height, Right Angle, Non-ZIF, Through Hole, Top Contact, 21 Circuits, -20 to 80 degC, ELV and RoHS Compliant, Tray; Manufacturer: Molex; PartNumber: 52807-2110; Circuits (Loaded): 21; Current (Max per Contact): 0.2A, 0.4A, 0.5A; Entry Angle: 90degrees Angle; Mated Height: 3.60mm; Material - Metal: Phosphor Bronze; Material - Plating Mating: Tin; PCB Retention: None; Pitch - Mating Interface: 1.00mm; Polarized to PCB: Yes; Stackable: No; Voltage (Max): 50V; PackageVersion: Rev. B, 08/2002; PackageReference: 52807-2110; PackageDescription: 21-Lead FFC Connector, Pitch 1.0 mm; Contact Position: Top; Material - Plating Termination: Tin; Number of Rows: 1; Orientation: Right Angle; Packing: Tray; Pitch - Termination Interface: 1.00mm; RoHS: TRUE; Mounting Technology: Through Hole; ComponentLink1Description: Manufacturer URL; ComponentLink1URL: http://www.molex.com/molex/index.jsp; ComponentLink2Description: Datasheet; ComponentLink2URL: http://www.molex.com/webdocs/datasheets/pdf/en-us/0528072110_FFC_FPC_CONNECTORS.pdf; ComponentLink3Description: Package Specification; ComponentLink3URL: http://www.molex.com/pdm_docs/sd/528072110_sd.pdf
footprint MOLX-52807-2110 (FFC Connector, 21-Leads, Right Angle, Pitch 1.0 mm, Mated Height 3.6 mm, Through Hole)
pins: 1, 2, 3, 4, 5, 6, 7, 8, 9, 10, 11, 12, 13, 14, 15, 16, 17, 18, 19, 20, 21

## 52807-2210
designator J?
1.0 mm Pitch FFC Connector, 3.6 mm Mated Height, Right Angle, Non-ZIF, Through Hole, Top Contact, 22 Circuits, -20 to 80 degC, ELV and RoHS Compliant, Tray; Manufacturer: Molex; PartNumber: 52807-2210; Circuits (Loaded): 22; Current (Max per Contact): 0.2A, 0.4A, 0.5A; Entry Angle: 90degrees Angle; Mated Height: 3.60mm; Material - Metal: Phosphor Bronze; Material - Plating Mating: Tin; PCB Retention: None; Pitch - Mating Interface: 1.00mm; Polarized to PCB: Yes; Stackable: No; Voltage (Max): 50V; PackageVersion: Rev. B, 08/2002; PackageReference: 52807-2210; PackageDescription: 22-Lead FFC Connector, Pitch 1.0 mm; Contact Position: Top; Material - Plating Termination: Tin; Number of Rows: 1; Orientation: Right Angle; Packing: Tray; Pitch - Termination Interface: 1.00mm; RoHS: TRUE; Mounting Technology: Through Hole; ComponentLink1Description: Manufacturer URL; ComponentLink1URL: http://www.molex.com/molex/index.jsp; ComponentLink2Description: Datasheet; ComponentLink2URL: http://www.molex.com/webdocs/datasheets/pdf/en-us/0528072210_FFC_FPC_CONNECTORS.pdf; ComponentLink3Description: Package Specification; ComponentLink3URL: http://www.molex.com/pdm_docs/sd/528072210_sd.pdf
footprint MOLX-52807-2210 (FFC Connector, 22-Leads, Right Angle, Pitch 1.0 mm, Mated Height 3.6 mm, Through Hole)
pins: 1, 2, 3, 4, 5, 6, 7, 8, 9, 10, 11, 12, 13, 14, 15, 16, 17, 18, 19, 20, 21, 22

## 52807-2310
designator J?
1.0 mm Pitch FFC Connector, 3.6 mm Mated Height, Right Angle, Non-ZIF, Through Hole, Top Contact, 23 Circuits, -20 to 80 degC, ELV and RoHS Compliant, Tray; Manufacturer: Molex; PartNumber: 52807-2310; Circuits (Loaded): 23; Current (Max per Contact): 0.2A, 0.4A, 0.5A; Entry Angle: 90degrees Angle; Mated Height: 3.60mm; Material - Metal: Phosphor Bronze; Material - Plating Mating: Tin; PCB Retention: None; Pitch - Mating Interface: 1.00mm; Polarized to PCB: Yes; Stackable: No; Voltage (Max): 50V; PackageVersion: Rev. B, 08/2002; PackageReference: 52807-2310; PackageDescription: 23-Lead FFC Connector, Pitch 1.0 mm; Contact Position: Top; Material - Plating Termination: Tin; Number of Rows: 1; Orientation: Right Angle; Packing: Tray; Pitch - Termination Interface: 1.00mm; RoHS: TRUE; Mounting Technology: Through Hole; ComponentLink1Description: Manufacturer URL; ComponentLink1URL: http://www.molex.com/molex/index.jsp; ComponentLink2Description: Datasheet; ComponentLink2URL: http://www.molex.com/webdocs/datasheets/pdf/en-us/0528072310_FFC_FPC_CONNECTORS.pdf; ComponentLink3Description: Package Specification; ComponentLink3URL: http://www.molex.com/pdm_docs/sd/528072310_sd.pdf
footprint MOLX-52807-2310 (FFC Connector, 23-Leads, Right Angle, Pitch 1.0 mm, Mated Height 3.6 mm, Through Hole)
pins: 1, 2, 3, 4, 5, 6, 7, 8, 9, 10, 11, 12, 13, 14, 15, 16, 17, 18, 19, 20, 21, 22, 23

## 52807-2410
designator J?
1.0 mm Pitch FFC Connector, 3.6 mm Mated Height, Right Angle, Non-ZIF, Through Hole, Top Contact, 24 Circuits, -20 to 80 degC, ELV and RoHS Compliant, Tray; Manufacturer: Molex; PartNumber: 52807-2410; Circuits (Loaded): 24; Current (Max per Contact): 0.2A, 0.4A, 0.5A; Entry Angle: 90degrees Angle; Mated Height: 3.60mm; Material - Metal: Phosphor Bronze; Material - Plating Mating: Tin; PCB Retention: None; Pitch - Mating Interface: 1.00mm; Polarized to PCB: Yes; Stackable: No; Voltage (Max): 50V; PackageVersion: Rev. B, 08/2002; PackageReference: 52807-2410; PackageDescription: 24-Lead FFC Connector, Pitch 1.0 mm; Contact Position: Top; Material - Plating Termination: Tin; Number of Rows: 1; Orientation: Right Angle; Packing: Tray; Pitch - Termination Interface: 1.00mm; RoHS: TRUE; Mounting Technology: Through Hole; ComponentLink1Description: Manufacturer URL; ComponentLink1URL: http://www.molex.com/molex/index.jsp; ComponentLink2Description: Datasheet; ComponentLink2URL: http://www.molex.com/webdocs/datasheets/pdf/en-us/0528072410_FFC_FPC_CONNECTORS.pdf; ComponentLink3Description: Package Specification; ComponentLink3URL: http://www.molex.com/pdm_docs/sd/528072410_sd.pdf
footprint MOLX-52807-2410 (FFC Connector, 24-Leads, Right Angle, Pitch 1.0 mm, Mated Height 3.6 mm, Through Hole)
pins: 1, 2, 3, 4, 5, 6, 7, 8, 9, 10, 11, 12, 13, 14, 15, 16, 17, 18, 19, 20, 21, 22, 23, 24

## 52807-2510
designator J?
1.0 mm Pitch FFC Connector, 3.6 mm Mated Height, Right Angle, Non-ZIF, Through Hole, Top Contact, 25 Circuits, -20 to 80 degC, ELV and RoHS Compliant, Tray; Manufacturer: Molex; PartNumber: 52807-2510; Circuits (Loaded): 25; Current (Max per Contact): 0.2A, 0.4A, 0.5A; Entry Angle: 90degrees Angle; Mated Height: 3.60mm; Material - Metal: Phosphor Bronze; Material - Plating Mating: Tin; PCB Retention: None; Pitch - Mating Interface: 1.00mm; Polarized to PCB: Yes; Stackable: No; Voltage (Max): 50V; PackageVersion: Rev. B, 08/2002; PackageReference: 52807-2510; PackageDescription: 25-Lead FFC Connector, Pitch 1.0 mm; Contact Position: Top; Material - Plating Termination: Tin; Number of Rows: 1; Orientation: Right Angle; Packing: Tray; Pitch - Termination Interface: 1.00mm; RoHS: TRUE; Mounting Technology: Through Hole; ComponentLink1Description: Manufacturer URL; ComponentLink1URL: http://www.molex.com/molex/index.jsp; ComponentLink2Description: Datasheet; ComponentLink2URL: http://www.molex.com/webdocs/datasheets/pdf/en-us/0528072510_FFC_FPC_CONNECTORS.pdf; ComponentLink3Description: Package Specification; ComponentLink3URL: http://www.molex.com/pdm_docs/sd/528072510_sd.pdf
footprint MOLX-52807-2510 (FFC Connector, 25-Leads, Right Angle, Pitch 1.0 mm, Mated Height 3.6 mm, Through Hole)
pins: 1, 2, 3, 4, 5, 6, 7, 8, 9, 10, 11, 12, 13, 14, 15, 16, 17, 18, 19, 20, 21, 22, 23, 24, 25

## 52807-2610
designator J?
1.0 mm Pitch FFC Connector, 3.6 mm Mated Height, Right Angle, Non-ZIF, Through Hole, Top Contact, 26 Circuits, -20 to 80 degC, ELV and RoHS Compliant, Tray; Manufacturer: Molex; PartNumber: 52807-2610; Circuits (Loaded): 26; Current (Max per Contact): 0.2A, 0.4A, 0.5A; Entry Angle: 90degrees Angle; Mated Height: 3.60mm; Material - Metal: Phosphor Bronze; Material - Plating Mating: Tin; PCB Retention: None; Pitch - Mating Interface: 1.00mm; Polarized to PCB: Yes; Stackable: No; Voltage (Max): 50V; PackageVersion: Rev. B, 08/2002; PackageReference: 52807-2610; PackageDescription: 26-Lead FFC Connector, Pitch 1.0 mm; Contact Position: Top; Material - Plating Termination: Tin; Number of Rows: 1; Orientation: Right Angle; Packing: Tray; Pitch - Termination Interface: 1.00mm; RoHS: TRUE; Mounting Technology: Through Hole; ComponentLink1Description: Manufacturer URL; ComponentLink1URL: http://www.molex.com/molex/index.jsp; ComponentLink2Description: Datasheet; ComponentLink2URL: http://www.molex.com/webdocs/datasheets/pdf/en-us/0528072610_FFC_FPC_CONNECTORS.pdf; ComponentLink3Description: Package Specification; ComponentLink3URL: http://www.molex.com/pdm_docs/sd/528072610_sd.pdf
footprint MOLX-52807-2610 (FFC Connector, 26-Leads, Right Angle, Pitch 1.0 mm, Mated Height 3.6 mm, Through Hole)
pins: 1, 2, 3, 4, 5, 6, 7, 8, 9, 10, 11, 12, 13, 14, 15, 16, 17, 18, 19, 20, 21, 22, 23, 24, 25, 26

## 52807-2710
designator J?
1.0 mm Pitch FFC Connector, 3.6 mm Mated Height, Right Angle, Non-ZIF, Through Hole, Top Contact, 27 Circuits, -20 to 80 degC, ELV and RoHS Compliant, Tray; Manufacturer: Molex; PartNumber: 52807-2710; Circuits (Loaded): 27; Current (Max per Contact): 0.2A, 0.4A, 0.5A; Entry Angle: 90degrees Angle; Mated Height: 3.60mm; Material - Metal: Phosphor Bronze; Material - Plating Mating: Tin; PCB Retention: None; Pitch - Mating Interface: 1.00mm; Polarized to PCB: Yes; Stackable: No; Voltage (Max): 50V; PackageVersion: Rev. B, 08/2002; PackageReference: 52807-2710; PackageDescription: 27-Lead FFC Connector, Pitch 1.0 mm; Contact Position: Top; Material - Plating Termination: Tin; Number of Rows: 1; Orientation: Right Angle; Packing: Tray; Pitch - Termination Interface: 1.00mm; RoHS: TRUE; Mounting Technology: Through Hole; ComponentLink1Description: Manufacturer URL; ComponentLink1URL: http://www.molex.com/molex/index.jsp; ComponentLink2Description: Datasheet; ComponentLink2URL: http://www.molex.com/webdocs/datasheets/pdf/en-us/0528072710_FFC_FPC_CONNECTORS.pdf; ComponentLink3Description: Package Specification; ComponentLink3URL: http://www.molex.com/pdm_docs/sd/528072710_sd.pdf
footprint MOLX-52807-2710 (FFC Connector, 27-Leads, Right Angle, Pitch 1.0 mm, Mated Height 3.6 mm, Through Hole)
pins: 1, 2, 3, 4, 5, 6, 7, 8, 9, 10, 11, 12, 13, 14, 15, 16, 17, 18, 19, 20, 21, 22, 23, 24, 25, 26, 27

## 52807-2810
designator J?
1.0 mm Pitch FFC Connector, 3.6 mm Mated Height, Right Angle, Non-ZIF, Through Hole, Top Contact, 28 Circuits, -20 to 80 degC, ELV and RoHS Compliant, Tray; Manufacturer: Molex; PartNumber: 52807-2810; Circuits (Loaded): 28; Current (Max per Contact): 0.2A, 0.4A, 0.5A; Entry Angle: 90degrees Angle; Mated Height: 3.60mm; Material - Metal: Phosphor Bronze; Material - Plating Mating: Tin; PCB Retention: None; Pitch - Mating Interface: 1.00mm; Polarized to PCB: Yes; Stackable: No; Voltage (Max): 50V; PackageVersion: Rev. B, 08/2002; PackageReference: 52807-2810; PackageDescription: 28-Lead FFC Connector, Pitch 1.0 mm; Contact Position: Top; Material - Plating Termination: Tin; Number of Rows: 1; Orientation: Right Angle; Packing: Tray; Pitch - Termination Interface: 1.00mm; RoHS: TRUE; Mounting Technology: Through Hole; ComponentLink1Description: Manufacturer URL; ComponentLink1URL: http://www.molex.com/molex/index.jsp; ComponentLink2Description: Datasheet; ComponentLink2URL: http://www.molex.com/webdocs/datasheets/pdf/en-us/0528072810_FFC_FPC_CONNECTORS.pdf; ComponentLink3Description: Package Specification; ComponentLink3URL: http://www.molex.com/pdm_docs/sd/528072810_sd.pdf
footprint MOLX-52807-2810 (FFC Connector, 28-Leads, Right Angle, Pitch 1.0 mm, Mated Height 3.6 mm, Through Hole)
pins: 1, 2, 3, 4, 5, 6, 7, 8, 9, 10, 11, 12, 13, 14, 15, 16, 17, 18, 19, 20, 21, 22, 23, 24, 25, 26, 27, 28

## 52807-2910
designator J?
1.0 mm Pitch FFC Connector, 3.6 mm Mated Height, Right Angle, Non-ZIF, Through Hole, Top Contact, 29 Circuits, -20 to 80 degC, ELV and RoHS Compliant, Tray; Manufacturer: Molex; PartNumber: 52807-2910; Circuits (Loaded): 29; Current (Max per Contact): 0.2A, 0.4A, 0.5A; Entry Angle: 90degrees Angle; Mated Height: 3.60mm; Material - Metal: Phosphor Bronze; Material - Plating Mating: Tin; PCB Retention: None; Pitch - Mating Interface: 1.00mm; Polarized to PCB: Yes; Stackable: No; Voltage (Max): 50V; PackageVersion: Rev. B, 08/2002; PackageReference: 52807-2910; PackageDescription: 29-Lead FFC Connector, Pitch 1.0 mm; Contact Position: Top; Material - Plating Termination: Tin; Number of Rows: 1; Orientation: Right Angle; Packing: Tray; Pitch - Termination Interface: 1.00mm; RoHS: TRUE; Mounting Technology: Through Hole; ComponentLink1Description: Manufacturer URL; ComponentLink1URL: http://www.molex.com/molex/index.jsp; ComponentLink2Description: Datasheet; ComponentLink2URL: http://www.molex.com/webdocs/datasheets/pdf/en-us/0528072910_FFC_FPC_CONNECTORS.pdf; ComponentLink3Description: Package Specification; ComponentLink3URL: http://www.molex.com/pdm_docs/sd/528072910_sd.pdf
footprint MOLX-52807-2910 (FFC Connector, 29-Leads, Right Angle, Pitch 1.0 mm, Mated Height 3.6 mm, Through Hole)
pins: 1, 2, 3, 4, 5, 6, 7, 8, 9, 10, 11, 12, 13, 14, 15, 16, 17, 18, 19, 20, 21, 22, 23, 24, 25, 26, 27, 28, 29

## 52807-3010
designator J?
1.0 mm Pitch FFC Connector, 3.6 mm Mated Height, Right Angle, Non-ZIF, Through Hole, Top Contact, 30 Circuits, -20 to 80 degC, ELV and RoHS Compliant, Tray; Manufacturer: Molex; PartNumber: 52807-3010; Circuits (Loaded): 30; Current (Max per Contact): 0.2A, 0.4A, 0.5A; Entry Angle: 90degrees Angle; Mated Height: 3.60mm; Material - Metal: Phosphor Bronze; Material - Plating Mating: Tin; PCB Retention: None; Pitch - Mating Interface: 1.00mm; Polarized to PCB: Yes; Stackable: No; Voltage (Max): 50V; PackageVersion: Rev. B, 08/2002; PackageReference: 52807-3010; PackageDescription: 30-Lead FFC Connector, Pitch 1.0 mm; Contact Position: Top; Material - Plating Termination: Tin; Number of Rows: 1; Orientation: Right Angle; Packing: Tray; Pitch - Termination Interface: 1.00mm; RoHS: TRUE; Mounting Technology: Through Hole; ComponentLink1Description: Manufacturer URL; ComponentLink1URL: http://www.molex.com/molex/index.jsp; ComponentLink2Description: Datasheet; ComponentLink2URL: http://www.molex.com/webdocs/datasheets/pdf/en-us/0528073010_FFC_FPC_CONNECTORS.pdf; ComponentLink3Description: Package Specification; ComponentLink3URL: http://www.molex.com/pdm_docs/sd/528073010_sd.pdf
footprint MOLX-52807-3010 (FFC Connector, 30-Leads, Right Angle, Pitch 1.0 mm, Mated Height 3.6 mm, Through Hole)
pins: 1, 2, 3, 4, 5, 6, 7, 8, 9, 10, 11, 12, 13, 14, 15, 16, 17, 18, 19, 20, 21, 22, 23, 24, 25, 26, 27, 28, 29, 30

## 90500-3007
designator J?
2.54 mm Pitch FFC Connector, 8.8 mm Mated Height, Vertical, ZIF, Through Hole, 7 Circuits, -40 to 85 degC, ELV and RoHS Compliant, Tube; Manufacturer: Molex; PartNumber: 90500-3007; Circuits (Loaded): 7; Current (Max per Contact): 0.5A, 1A; Durability (mating cycles max): 50; Mated Height: 8.80mm; Material - Metal: Phosphor Bronze; Material - Plating Mating: Tin; PCB Retention: None; Pitch - Mating Interface: 2.54mm; Polarized to PCB: No; Voltage (Max): 250V; PackageVersion: Rev. B1, 05/2005; PackageReference: 90500-3007; PackageDescription: 7-Lead FFC Connector, Pitch 2.54 mm; Contact Position: N/A; Entry Angle: Vertical; Material - Plating Termination: Tin; Number of Rows: 1; Orientation: Vertical; Packing: Tube; Pitch - Termination Interface: 2.54mm; RoHS: TRUE; Stackable: No; Mounting Technology: Through Hole; ComponentLink1Description: Manufacturer URL; ComponentLink1URL: http://www.molex.com/molex/index.jsp; ComponentLink2Description: Datasheet; ComponentLink2URL: http://www.molex.com/webdocs/datasheets/pdf/en-us/0905003007_FFC_FPC_CONNECTORS.pdf; ComponentLink3Description: Package Specification; ComponentLink3URL: http://www.molex.com/pdm_docs/sd/905003007_sd.pdf
footprint MOLX-90500-3007 (FFC Connector, 7-Leads, Vertical, Pitch 2.54 mm, Mated Height 8.8 mm, Through Hole)
pins: 1, 2, 3, 4, 5, 6, 7